# Altium schematic symbol library kmilo17pet-LT_PMIC_LT.SchLib: 2252 symbols (part 44 of 124)
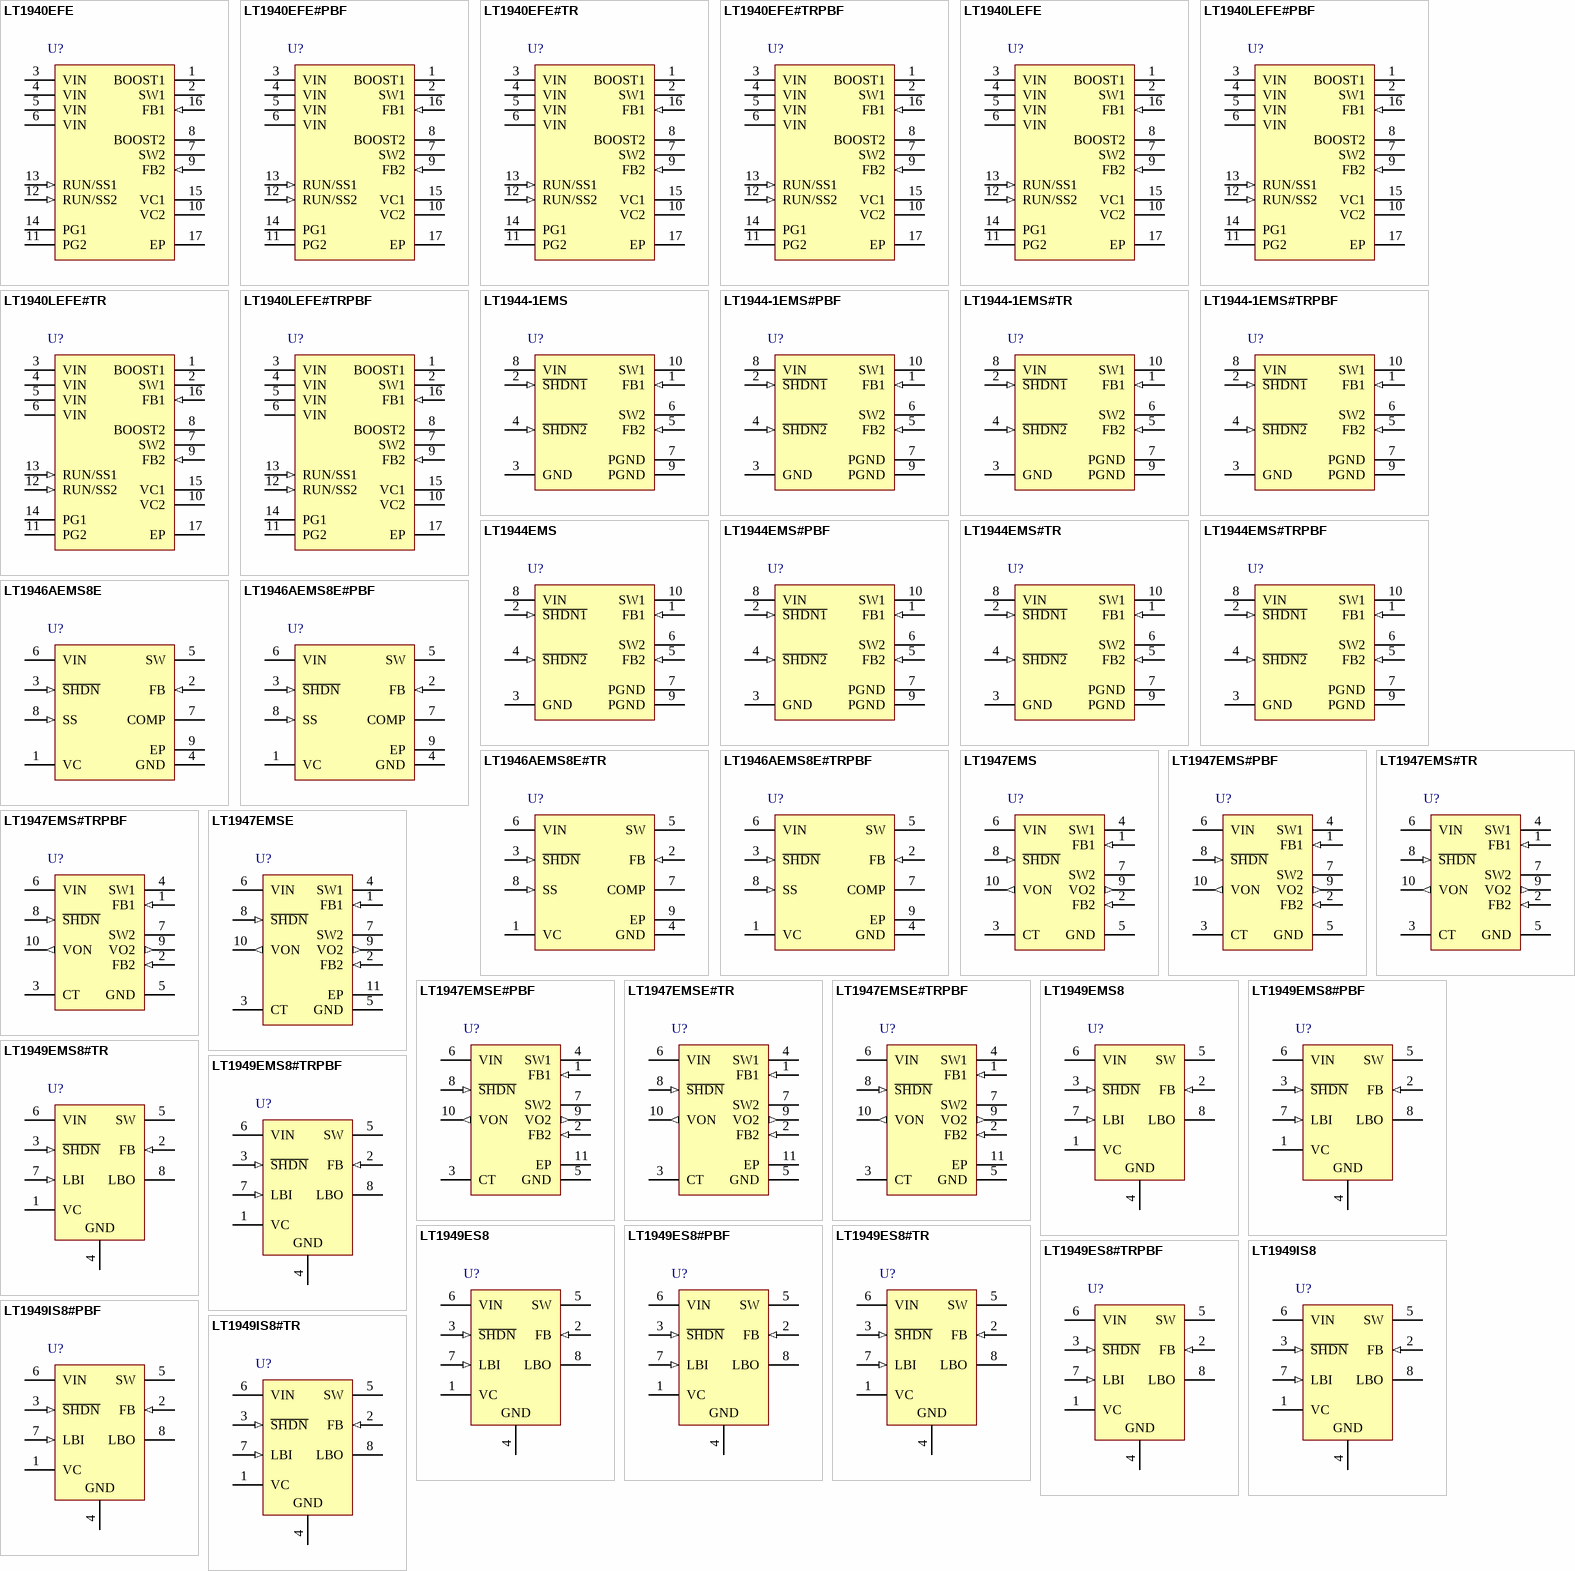
[diagram p114: symbols LT1940EFE to LT1949IS8#TR]

## LT1947EMS#TR
designator U?
Adjustable Output TFT-LCD Triple Switching Regulator MAX, 10-pin SOP (MS-10), -40 to 85 degC, Tape and Reel; Manufacturer: Linear Technology; PartNumber: LT1947EMS#TR; Number of Outputs: 3; PackageReference: MS-10; PackageDescription: 10-Pin Plastic MSOP, Body 3 x 3 mm, Pitch 0.5 mm; Supplier 1: Digi-Key; Supplier Part Number 1: LT1947EMSTR-ND; RoHS: FALSE
footprint LT-MS-10_N (SOP, 10-Leads, Body 3.1x3.1mm, Pitch 0.5mm, IPC Medium Density)
footprint LT-MS-10_L (SOP, 10-Leads, Body 3.1x3.1mm, Pitch 0.5mm, IPC High Density)
footprint LT-MS-10_M (SOP, 10-Leads, Body 3.1x3.1mm, Pitch 0.5mm, IPC Low Density)
pins: 1 FB1 (in) "Feedback Pin for First Switcher. Connect resistor divider tap here. Set AVDD according to: AVDD = 1.26V(1 + R1/R2).", 2 FB2 (in) "Feedback Pin for Second Switcher. Connect resistor divider 2 here and set VON using: VON = 1.26V (1 + R3/R4) - 160mV", 3 CT "Timing Capacitor Pin. Connect a 10nF capacitor from CT to ground to program a 2.3ms delay from FB1 reaching 1.26V to VON turning on.", 4 SW1 (power) "AVDD Switch Node. Connect L1 and D1 here (see Figure 1). Minimize trace area at this pin to keep EMI down.", 5 GND (power) "Ground. Connect directly to local ground plane.", 6 VIN (power) "Input Supply Pin. Must be bypassed with a ceramic capacitor close to the pin.", 7 SW2 (power) "VO2 Switch Node. Connect L2 and D2 here. Minimize trace area at this pin to keep EMI down.", 8 ~{SHDN} (in) "Pull this pin low for shutdown mode. For normal operation, tie to a voltage between 2.4V and 8V.", 9 VO2 (out) "SW2 Output. This node is also internally connected to the emitter of Q3 (see Block Diagram), the high side switch between VO2 and VON.", 10 VON (out) "This is the delayed output for second Switcher. VON reaches its programmed voltage after the internal timer times out."

## LT1947EMS#TRPBF
designator U?
Adjustable Output TFT-LCD Triple Switching Regulator MAX, 10-pin SOP (MS-10), -40 to 85 degC, Pb-Free, Tape and Reel; Manufacturer: Linear Technology; PartNumber: LT1947EMS#TRPBF; Number of Outputs: 3; PackageReference: MS-10; PackageDescription: 10-Pin Plastic MSOP, Body 3 x 3 mm, Pitch 0.5 mm; Supplier 1: Digi-Key; Supplier Part Number 1: LT1947EMS#TRPBF-ND; RoHS: TRUE
footprint LT-MS-10_N (SOP, 10-Leads, Body 3.1x3.1mm, Pitch 0.5mm, IPC Medium Density)
footprint LT-MS-10_L (SOP, 10-Leads, Body 3.1x3.1mm, Pitch 0.5mm, IPC High Density)
footprint LT-MS-10_M (SOP, 10-Leads, Body 3.1x3.1mm, Pitch 0.5mm, IPC Low Density)
pins: 1 FB1 (in) "Feedback Pin for First Switcher. Connect resistor divider tap here. Set AVDD according to: AVDD = 1.26V(1 + R1/R2).", 2 FB2 (in) "Feedback Pin for Second Switcher. Connect resistor divider 2 here and set VON using: VON = 1.26V (1 + R3/R4) - 160mV", 3 CT "Timing Capacitor Pin. Connect a 10nF capacitor from CT to ground to program a 2.3ms delay from FB1 reaching 1.26V to VON turning on.", 4 SW1 (power) "AVDD Switch Node. Connect L1 and D1 here (see Figure 1). Minimize trace area at this pin to keep EMI down.", 5 GND (power) "Ground. Connect directly to local ground plane.", 6 VIN (power) "Input Supply Pin. Must be bypassed with a ceramic capacitor close to the pin.", 7 SW2 (power) "VO2 Switch Node. Connect L2 and D2 here. Minimize trace area at this pin to keep EMI down.", 8 ~{SHDN} (in) "Pull this pin low for shutdown mode. For normal operation, tie to a voltage between 2.4V and 8V.", 9 VO2 (out) "SW2 Output. This node is also internally connected to the emitter of Q3 (see Block Diagram), the high side switch between VO2 and VON.", 10 VON (out) "This is the delayed output for second Switcher. VON reaches its programmed voltage after the internal timer times out."

## LT1947EMSE
designator U?
Adjustable Output TFT-LCD Triple Switching Regulator MAX,10-pin SOP (MSE-10-EDP), -40 to 85 degC; Manufacturer: Linear Technology; PartNumber: LT1947EMSE; Number of Outputs: 3; PackageReference: MSE-10; PackageDescription: 10-Pin Plastic MSOP, Exposed Die Pad, Body 3 x 3 mm, Pitch 0.5 mm; RoHS: FALSE
footprint LT-MSE-10-EDP-2060x1830TP_N (SOP, 10-Leads, Body 3.1x3.1mm, Pitch 0.5mm, Thermal Pad 2.17x1.94mm, IPC Medium Density)
footprint LT-MSE-10-EDP-2060x1830TP_L (SOP, 10-Leads, Body 3.1x3.1mm, Pitch 0.5mm, Thermal Pad 2.17x1.94mm, IPC High Density)
footprint LT-MSE-10-EDP-2060x1830TP_M (SOP, 10-Leads, Body 3.1x3.1mm, Pitch 0.5mm, Thermal Pad 2.17x1.94mm, IPC Low Density)
pins: 1 FB1 (in) "Feedback Pin for First Switcher. Connect resistor divider tap here. Set AVDD according to: AVDD = 1.26V(1 + R1/R2).", 2 FB2 (in) "Feedback Pin for Second Switcher. Connect resistor divider 2 here and set VON using: VON = 1.26V (1 + R3/R4) - 160mV", 3 CT "Timing Capacitor Pin. Connect a 10nF capacitor from CT to ground to program a 2.3ms delay from FB1 reaching 1.26V to VON turning on.", 4 SW1 (power) "AVDD Switch Node. Connect L1 and D1 here (see Figure 1). Minimize trace area at this pin to keep EMI down.", 5 GND (power) "Ground. Connect directly to local ground plane.", 6 VIN (power) "Input Supply Pin. Must be bypassed with a ceramic capacitor close to the pin.", 7 SW2 (power) "VO2 Switch Node. Connect L2 and D2 here. Minimize trace area at this pin to keep EMI down.", 8 ~{SHDN} (in) "Pull this pin low for shutdown mode. For normal operation, tie to a voltage between 2.4V and 8V.", 9 VO2 (out) "SW2 Output. This node is also internally connected to the emitter of Q3 (see Block Diagram), the high side switch between VO2 and VON.", 10 VON (out) "This is the delayed output for second Switcher. VON reaches its programmed voltage after the internal timer times out.", 11 EP (power) "Ground (MSE package only). The exposed pad must be soldered to the PCB and electrically connected to ground."

## LT1947EMSE#PBF
designator U?
Adjustable Output TFT-LCD Triple Switching Regulator MAX,10-pin SOP (MSE-10-EDP), -40 to 85 degC, Pb-Free; Manufacturer: Linear Technology; PartNumber: LT1947EMSE#PBF; Number of Outputs: 3; PackageReference: MSE-10; PackageDescription: 10-Pin Plastic MSOP, Exposed Die Pad, Body 3 x 3 mm, Pitch 0.5 mm; Supplier 1: Digi-Key; Supplier Part Number 1: LT1947EMSE#PBF-ND; RoHS: TRUE
footprint LT-MSE-10-EDP-2060x1830TP_N (SOP, 10-Leads, Body 3.1x3.1mm, Pitch 0.5mm, Thermal Pad 2.17x1.94mm, IPC Medium Density)
footprint LT-MSE-10-EDP-2060x1830TP_L (SOP, 10-Leads, Body 3.1x3.1mm, Pitch 0.5mm, Thermal Pad 2.17x1.94mm, IPC High Density)
footprint LT-MSE-10-EDP-2060x1830TP_M (SOP, 10-Leads, Body 3.1x3.1mm, Pitch 0.5mm, Thermal Pad 2.17x1.94mm, IPC Low Density)
pins: 1 FB1 (in) "Feedback Pin for First Switcher. Connect resistor divider tap here. Set AVDD according to: AVDD = 1.26V(1 + R1/R2).", 2 FB2 (in) "Feedback Pin for Second Switcher. Connect resistor divider 2 here and set VON using: VON = 1.26V (1 + R3/R4) - 160mV", 3 CT "Timing Capacitor Pin. Connect a 10nF capacitor from CT to ground to program a 2.3ms delay from FB1 reaching 1.26V to VON turning on.", 4 SW1 (power) "AVDD Switch Node. Connect L1 and D1 here (see Figure 1). Minimize trace area at this pin to keep EMI down.", 5 GND (power) "Ground. Connect directly to local ground plane.", 6 VIN (power) "Input Supply Pin. Must be bypassed with a ceramic capacitor close to the pin.", 7 SW2 (power) "VO2 Switch Node. Connect L2 and D2 here. Minimize trace area at this pin to keep EMI down.", 8 ~{SHDN} (in) "Pull this pin low for shutdown mode. For normal operation, tie to a voltage between 2.4V and 8V.", 9 VO2 (out) "SW2 Output. This node is also internally connected to the emitter of Q3 (see Block Diagram), the high side switch between VO2 and VON.", 10 VON (out) "This is the delayed output for second Switcher. VON reaches its programmed voltage after the internal timer times out.", 11 EP (power) "Ground (MSE package only). The exposed pad must be soldered to the PCB and electrically connected to ground."

## LT1947EMSE#TR
designator U?
Adjustable Output TFT-LCD Triple Switching Regulator MAX,10-pin SOP (MSE-10-EDP), -40 to 85 degC, Tape and Reel; Manufacturer: Linear Technology; PartNumber: LT1947EMSE#TR; Number of Outputs: 3; PackageReference: MSE-10; PackageDescription: 10-Pin Plastic MSOP, Exposed Die Pad, Body 3 x 3 mm, Pitch 0.5 mm; RoHS: FALSE
footprint LT-MSE-10-EDP-2060x1830TP_N (SOP, 10-Leads, Body 3.1x3.1mm, Pitch 0.5mm, Thermal Pad 2.17x1.94mm, IPC Medium Density)
footprint LT-MSE-10-EDP-2060x1830TP_L (SOP, 10-Leads, Body 3.1x3.1mm, Pitch 0.5mm, Thermal Pad 2.17x1.94mm, IPC High Density)
footprint LT-MSE-10-EDP-2060x1830TP_M (SOP, 10-Leads, Body 3.1x3.1mm, Pitch 0.5mm, Thermal Pad 2.17x1.94mm, IPC Low Density)
pins: 1 FB1 (in) "Feedback Pin for First Switcher. Connect resistor divider tap here. Set AVDD according to: AVDD = 1.26V(1 + R1/R2).", 2 FB2 (in) "Feedback Pin for Second Switcher. Connect resistor divider 2 here and set VON using: VON = 1.26V (1 + R3/R4) - 160mV", 3 CT "Timing Capacitor Pin. Connect a 10nF capacitor from CT to ground to program a 2.3ms delay from FB1 reaching 1.26V to VON turning on.", 4 SW1 (power) "AVDD Switch Node. Connect L1 and D1 here (see Figure 1). Minimize trace area at this pin to keep EMI down.", 5 GND (power) "Ground. Connect directly to local ground plane.", 6 VIN (power) "Input Supply Pin. Must be bypassed with a ceramic capacitor close to the pin.", 7 SW2 (power) "VO2 Switch Node. Connect L2 and D2 here. Minimize trace area at this pin to keep EMI down.", 8 ~{SHDN} (in) "Pull this pin low for shutdown mode. For normal operation, tie to a voltage between 2.4V and 8V.", 9 VO2 (out) "SW2 Output. This node is also internally connected to the emitter of Q3 (see Block Diagram), the high side switch between VO2 and VON.", 10 VON (out) "This is the delayed output for second Switcher. VON reaches its programmed voltage after the internal timer times out.", 11 EP (power) "Ground (MSE package only). The exposed pad must be soldered to the PCB and electrically connected to ground."

## LT1947EMSE#TRPBF
designator U?
Adjustable Output TFT-LCD Triple Switching Regulator MAX,10-pin SOP (MSE-10-EDP), -40 to 85 degC, Pb-Free, Tape and Reel; Manufacturer: Linear Technology; PartNumber: LT1947EMSE#TRPBF; Number of Outputs: 3; PackageReference: MSE-10; PackageDescription: 10-Pin Plastic MSOP, Exposed Die Pad, Body 3 x 3 mm, Pitch 0.5 mm; Supplier 1: Digi-Key; Supplier Part Number 1: LT1947EMSE#TRPBF-ND; RoHS: TRUE
footprint LT-MSE-10-EDP-2060x1830TP_N (SOP, 10-Leads, Body 3.1x3.1mm, Pitch 0.5mm, Thermal Pad 2.17x1.94mm, IPC Medium Density)
footprint LT-MSE-10-EDP-2060x1830TP_L (SOP, 10-Leads, Body 3.1x3.1mm, Pitch 0.5mm, Thermal Pad 2.17x1.94mm, IPC High Density)
footprint LT-MSE-10-EDP-2060x1830TP_M (SOP, 10-Leads, Body 3.1x3.1mm, Pitch 0.5mm, Thermal Pad 2.17x1.94mm, IPC Low Density)
pins: 1 FB1 (in) "Feedback Pin for First Switcher. Connect resistor divider tap here. Set AVDD according to: AVDD = 1.26V(1 + R1/R2).", 2 FB2 (in) "Feedback Pin for Second Switcher. Connect resistor divider 2 here and set VON using: VON = 1.26V (1 + R3/R4) - 160mV", 3 CT "Timing Capacitor Pin. Connect a 10nF capacitor from CT to ground to program a 2.3ms delay from FB1 reaching 1.26V to VON turning on.", 4 SW1 (power) "AVDD Switch Node. Connect L1 and D1 here (see Figure 1). Minimize trace area at this pin to keep EMI down.", 5 GND (power) "Ground. Connect directly to local ground plane.", 6 VIN (power) "Input Supply Pin. Must be bypassed with a ceramic capacitor close to the pin.", 7 SW2 (power) "VO2 Switch Node. Connect L2 and D2 here. Minimize trace area at this pin to keep EMI down.", 8 ~{SHDN} (in) "Pull this pin low for shutdown mode. For normal operation, tie to a voltage between 2.4V and 8V.", 9 VO2 (out) "SW2 Output. This node is also internally connected to the emitter of Q3 (see Block Diagram), the high side switch between VO2 and VON.", 10 VON (out) "This is the delayed output for second Switcher. VON reaches its programmed voltage after the internal timer times out.", 11 EP (power) "Ground (MSE package only). The exposed pad must be soldered to the PCB and electrically connected to ground."

## LT1949EMS8
designator U?
600 kHz, 1 A Switch PWM DC/DC Converter, 8-pin SOP (MS8-8), -40 to 85 degC; Manufacturer: Linear Technology; PartNumber: LT1949EMS8; Number of Outputs: 1; PackageReference: MS8-8; PackageDescription: 8-Pin Plastic MSOP, Body 3 x 3 mm, Pitch 0.65 mm; Supplier 1: Digi-Key; Supplier Part Number 1: LT1949EMS8-ND; RoHS: FALSE
footprint LT-MS8-8_N (SOP, 8-Leads, Body 3.1x3.1mm, Pitch 0.65mm, IPC Medium Density)
footprint LT-MS8-8_L (SOP, 8-Leads, Body 3.1x3.1mm, Pitch 0.65mm, IPC High Density)
footprint LT-MS8-8_M (SOP, 8-Leads, Body 3.1x3.1mm, Pitch 0.65mm, IPC Low Density)
pins: 1 VC "Compensation Pin for Error Amplifier.", 2 FB (in) "Feedback Pin.", 3 ~{SHDN} (in) "Shutdown.", 4 GND (power) "Ground. Connect directly to local ground plane.", 5 SW (power) "Switch Pin. Connect inductor/diode here. Minimize trace area at this pin to keep EMI down.", 6 VIN (power) "Supply Pin.", 7 LBI (in) "Low-Battery Detector Input. 200mV reference. Voltage on LBI must stay between ground and 700mV.", 8 LBO (oc) "Low-Battery Detector Output. Open collector, can sink 10uA. A 1Mohm pull-up is recommended."

## LT1949EMS8#PBF
designator U?
600 kHz, 1 A Switch PWM DC/DC Converter, 8-pin SOP (MS8-8), -40 to 85 degC, Pb-Free; Manufacturer: Linear Technology; PartNumber: LT1949EMS8#PBF; Number of Outputs: 1; PackageReference: MS8-8; PackageDescription: 8-Pin Plastic MSOP, Body 3 x 3 mm, Pitch 0.65 mm; Supplier 1: Digi-Key; Supplier Part Number 1: LT1949EMS8#PBF-ND; RoHS: TRUE
footprint LT-MS8-8_N (SOP, 8-Leads, Body 3.1x3.1mm, Pitch 0.65mm, IPC Medium Density)
footprint LT-MS8-8_L (SOP, 8-Leads, Body 3.1x3.1mm, Pitch 0.65mm, IPC High Density)
footprint LT-MS8-8_M (SOP, 8-Leads, Body 3.1x3.1mm, Pitch 0.65mm, IPC Low Density)
pins: 1 VC "Compensation Pin for Error Amplifier.", 2 FB (in) "Feedback Pin.", 3 ~{SHDN} (in) "Shutdown.", 4 GND (power) "Ground. Connect directly to local ground plane.", 5 SW (power) "Switch Pin. Connect inductor/diode here. Minimize trace area at this pin to keep EMI down.", 6 VIN (power) "Supply Pin.", 7 LBI (in) "Low-Battery Detector Input. 200mV reference. Voltage on LBI must stay between ground and 700mV.", 8 LBO (oc) "Low-Battery Detector Output. Open collector, can sink 10uA. A 1Mohm pull-up is recommended."

## LT1949EMS8#TR
designator U?
600 kHz, 1 A Switch PWM DC/DC Converter, 8-pin SOP (MS8-8), -40 to 85 degC, Tape and Reel; Manufacturer: Linear Technology; PartNumber: LT1949EMS8#TR; Number of Outputs: 1; PackageReference: MS8-8; PackageDescription: 8-Pin Plastic MSOP, Body 3 x 3 mm, Pitch 0.65 mm; Supplier 1: Digi-Key; Supplier Part Number 1: LT1949EMS8#TR-ND; RoHS: FALSE
footprint LT-MS8-8_N (SOP, 8-Leads, Body 3.1x3.1mm, Pitch 0.65mm, IPC Medium Density)
footprint LT-MS8-8_L (SOP, 8-Leads, Body 3.1x3.1mm, Pitch 0.65mm, IPC High Density)
footprint LT-MS8-8_M (SOP, 8-Leads, Body 3.1x3.1mm, Pitch 0.65mm, IPC Low Density)
pins: 1 VC "Compensation Pin for Error Amplifier.", 2 FB (in) "Feedback Pin.", 3 ~{SHDN} (in) "Shutdown.", 4 GND (power) "Ground. Connect directly to local ground plane.", 5 SW (power) "Switch Pin. Connect inductor/diode here. Minimize trace area at this pin to keep EMI down.", 6 VIN (power) "Supply Pin.", 7 LBI (in) "Low-Battery Detector Input. 200mV reference. Voltage on LBI must stay between ground and 700mV.", 8 LBO (oc) "Low-Battery Detector Output. Open collector, can sink 10uA. A 1Mohm pull-up is recommended."

## LT1949EMS8#TRPBF
designator U?
600 kHz, 1 A Switch PWM DC/DC Converter, 8-pin SOP (MS8-8), -40 to 85 degC, Pb-Free, Tape and Reel; Manufacturer: Linear Technology; PartNumber: LT1949EMS8#TRPBF; Number of Outputs: 1; PackageReference: MS8-8; PackageDescription: 8-Pin Plastic MSOP, Body 3 x 3 mm, Pitch 0.65 mm; Supplier 1: Digi-Key; Supplier Part Number 1: LT1949EMS8#TRPBF-ND; RoHS: TRUE
footprint LT-MS8-8_N (SOP, 8-Leads, Body 3.1x3.1mm, Pitch 0.65mm, IPC Medium Density)
footprint LT-MS8-8_L (SOP, 8-Leads, Body 3.1x3.1mm, Pitch 0.65mm, IPC High Density)
footprint LT-MS8-8_M (SOP, 8-Leads, Body 3.1x3.1mm, Pitch 0.65mm, IPC Low Density)
pins: 1 VC "Compensation Pin for Error Amplifier.", 2 FB (in) "Feedback Pin.", 3 ~{SHDN} (in) "Shutdown.", 4 GND (power) "Ground. Connect directly to local ground plane.", 5 SW (power) "Switch Pin. Connect inductor/diode here. Minimize trace area at this pin to keep EMI down.", 6 VIN (power) "Supply Pin.", 7 LBI (in) "Low-Battery Detector Input. 200mV reference. Voltage on LBI must stay between ground and 700mV.", 8 LBO (oc) "Low-Battery Detector Output. Open collector, can sink 10uA. A 1Mohm pull-up is recommended."

## LT1949ES8
designator U?
600 kHz, 1 A Switch PWM DC/DC Converter, 8-pin SOIC (S8-8), -40 to 85 degC; Manufacturer: Linear Technology; PartNumber: LT1949ES8; Number of Outputs: 1; PackageReference: S8-8; PackageDescription: 8-Pin Plastic Small Outline (Narrow .150 Inch), Body 4.9 x 3.9 mm, Pitch 1.27 mm; Supplier 1: Digi-Key; Supplier Part Number 1: LT1949ES8-ND; RoHS: FALSE
footprint LT-S8-8_N (SOIC, 8-Leads, Body 5x4mm, Pitch 1.27mm, IPC Medium Density)
footprint LT-S8-8_L (SOIC, 8-Leads, Body 5x4mm, Pitch 1.27mm, IPC High Density)
footprint LT-S8-8_M (SOIC, 8-Leads, Body 5x4mm, Pitch 1.27mm, IPC Low Density)
pins: 1 VC "Compensation Pin for Error Amplifier.", 2 FB (in) "Feedback Pin.", 3 ~{SHDN} (in) "Shutdown.", 4 GND (power) "Ground. Connect directly to local ground plane.", 5 SW (power) "Switch Pin. Connect inductor/diode here. Minimize trace area at this pin to keep EMI down.", 6 VIN (power) "Supply Pin.", 7 LBI (in) "Low-Battery Detector Input. 200mV reference. Voltage on LBI must stay between ground and 700mV.", 8 LBO (oc) "Low-Battery Detector Output. Open collector, can sink 10uA. A 1Mohm pull-up is recommended."

## LT1949ES8#PBF
designator U?
600 kHz, 1 A Switch PWM DC/DC Converter, 8-pin SOIC (S8-8), -40 to 85 degC, Pb-Free; Manufacturer: Linear Technology; PartNumber: LT1949ES8#PBF; Number of Outputs: 1; PackageReference: S8-8; PackageDescription: 8-Pin Plastic Small Outline (Narrow .150 Inch), Body 4.9 x 3.9 mm, Pitch 1.27 mm; Supplier 1: Digi-Key; Supplier Part Number 1: LT1949ES8#PBF-ND; RoHS: TRUE
footprint LT-S8-8_N (SOIC, 8-Leads, Body 5x4mm, Pitch 1.27mm, IPC Medium Density)
footprint LT-S8-8_L (SOIC, 8-Leads, Body 5x4mm, Pitch 1.27mm, IPC High Density)
footprint LT-S8-8_M (SOIC, 8-Leads, Body 5x4mm, Pitch 1.27mm, IPC Low Density)
pins: 1 VC "Compensation Pin for Error Amplifier.", 2 FB (in) "Feedback Pin.", 3 ~{SHDN} (in) "Shutdown.", 4 GND (power) "Ground. Connect directly to local ground plane.", 5 SW (power) "Switch Pin. Connect inductor/diode here. Minimize trace area at this pin to keep EMI down.", 6 VIN (power) "Supply Pin.", 7 LBI (in) "Low-Battery Detector Input. 200mV reference. Voltage on LBI must stay between ground and 700mV.", 8 LBO (oc) "Low-Battery Detector Output. Open collector, can sink 10uA. A 1Mohm pull-up is recommended."

## LT1949ES8#TR
designator U?
600 kHz, 1 A Switch PWM DC/DC Converter, 8-pin SOIC (S8-8), -40 to 85 degC, Tape and Reel; Manufacturer: Linear Technology; PartNumber: LT1949ES8#TR; Number of Outputs: 1; PackageReference: S8-8; PackageDescription: 8-Pin Plastic Small Outline (Narrow .150 Inch), Body 4.9 x 3.9 mm, Pitch 1.27 mm; Supplier 1: Digi-Key; Supplier Part Number 1: LT1949ES8#TR-ND; RoHS: FALSE
footprint LT-S8-8_N (SOIC, 8-Leads, Body 5x4mm, Pitch 1.27mm, IPC Medium Density)
footprint LT-S8-8_L (SOIC, 8-Leads, Body 5x4mm, Pitch 1.27mm, IPC High Density)
footprint LT-S8-8_M (SOIC, 8-Leads, Body 5x4mm, Pitch 1.27mm, IPC Low Density)
pins: 1 VC "Compensation Pin for Error Amplifier.", 2 FB (in) "Feedback Pin.", 3 ~{SHDN} (in) "Shutdown.", 4 GND (power) "Ground. Connect directly to local ground plane.", 5 SW (power) "Switch Pin. Connect inductor/diode here. Minimize trace area at this pin to keep EMI down.", 6 VIN (power) "Supply Pin.", 7 LBI (in) "Low-Battery Detector Input. 200mV reference. Voltage on LBI must stay between ground and 700mV.", 8 LBO (oc) "Low-Battery Detector Output. Open collector, can sink 10uA. A 1Mohm pull-up is recommended."

## LT1949ES8#TRPBF
designator U?
600 kHz, 1 A Switch PWM DC/DC Converter, 8-pin SOIC (S8-8), -40 to 85 degC, Pb-Free, Tape and Reel; Manufacturer: Linear Technology; PartNumber: LT1949ES8#TRPBF; Number of Outputs: 1; PackageReference: S8-8; PackageDescription: 8-Pin Plastic Small Outline (Narrow .150 Inch), Body 4.9 x 3.9 mm, Pitch 1.27 mm; Supplier 1: Digi-Key; Supplier Part Number 1: LT1949ES8#TRPBF-ND; RoHS: TRUE
footprint LT-S8-8_N (SOIC, 8-Leads, Body 5x4mm, Pitch 1.27mm, IPC Medium Density)
footprint LT-S8-8_L (SOIC, 8-Leads, Body 5x4mm, Pitch 1.27mm, IPC High Density)
footprint LT-S8-8_M (SOIC, 8-Leads, Body 5x4mm, Pitch 1.27mm, IPC Low Density)
pins: 1 VC "Compensation Pin for Error Amplifier.", 2 FB (in) "Feedback Pin.", 3 ~{SHDN} (in) "Shutdown.", 4 GND (power) "Ground. Connect directly to local ground plane.", 5 SW (power) "Switch Pin. Connect inductor/diode here. Minimize trace area at this pin to keep EMI down.", 6 VIN (power) "Supply Pin.", 7 LBI (in) "Low-Battery Detector Input. 200mV reference. Voltage on LBI must stay between ground and 700mV.", 8 LBO (oc) "Low-Battery Detector Output. Open collector, can sink 10uA. A 1Mohm pull-up is recommended."

## LT1949IS8
designator U?
600 kHz, 1 A Switch PWM DC/DC Converter, 8-pin SOIC (S8-8), -40 to 85 degC; Manufacturer: Linear Technology; PartNumber: LT1949IS8; Number of Outputs: 1; PackageReference: S8-8; PackageDescription: 8-Pin Plastic Small Outline (Narrow .150 Inch), Body 4.9 x 3.9 mm, Pitch 1.27 mm; Supplier 1: Digi-Key; Supplier Part Number 1: LT1949IS8-ND; RoHS: FALSE
footprint LT-S8-8_N (SOIC, 8-Leads, Body 5x4mm, Pitch 1.27mm, IPC Medium Density)
footprint LT-S8-8_L (SOIC, 8-Leads, Body 5x4mm, Pitch 1.27mm, IPC High Density)
footprint LT-S8-8_M (SOIC, 8-Leads, Body 5x4mm, Pitch 1.27mm, IPC Low Density)
pins: 1 VC "Compensation Pin for Error Amplifier.", 2 FB (in) "Feedback Pin.", 3 ~{SHDN} (in) "Shutdown.", 4 GND (power) "Ground. Connect directly to local ground plane.", 5 SW (power) "Switch Pin. Connect inductor/diode here. Minimize trace area at this pin to keep EMI down.", 6 VIN (power) "Supply Pin.", 7 LBI (in) "Low-Battery Detector Input. 200mV reference. Voltage on LBI must stay between ground and 700mV.", 8 LBO (oc) "Low-Battery Detector Output. Open collector, can sink 10uA. A 1Mohm pull-up is recommended."

## LT1949IS8#PBF
designator U?
600 kHz, 1 A Switch PWM DC/DC Converter, 8-pin SOIC (S8-8), -40 to 85 degC, Pb-Free; Manufacturer: Linear Technology; PartNumber: LT1949IS8#PBF; Number of Outputs: 1; PackageReference: S8-8; PackageDescription: 8-Pin Plastic Small Outline (Narrow .150 Inch), Body 4.9 x 3.9 mm, Pitch 1.27 mm; Supplier 1: Digi-Key; Supplier Part Number 1: LT1949IS8#PBF-ND; RoHS: TRUE
footprint LT-S8-8_N (SOIC, 8-Leads, Body 5x4mm, Pitch 1.27mm, IPC Medium Density)
footprint LT-S8-8_L (SOIC, 8-Leads, Body 5x4mm, Pitch 1.27mm, IPC High Density)
footprint LT-S8-8_M (SOIC, 8-Leads, Body 5x4mm, Pitch 1.27mm, IPC Low Density)
pins: 1 VC "Compensation Pin for Error Amplifier.", 2 FB (in) "Feedback Pin.", 3 ~{SHDN} (in) "Shutdown.", 4 GND (power) "Ground. Connect directly to local ground plane.", 5 SW (power) "Switch Pin. Connect inductor/diode here. Minimize trace area at this pin to keep EMI down.", 6 VIN (power) "Supply Pin.", 7 LBI (in) "Low-Battery Detector Input. 200mV reference. Voltage on LBI must stay between ground and 700mV.", 8 LBO (oc) "Low-Battery Detector Output. Open collector, can sink 10uA. A 1Mohm pull-up is recommended."

## LT1949IS8#TR
designator U?
600 kHz, 1 A Switch PWM DC/DC Converter, 8-pin SOIC (S8-8), -40 to 85 degC, Tape and Reel; Manufacturer: Linear Technology; PartNumber: LT1949IS8#TR; Number of Outputs: 1; PackageReference: S8-8; PackageDescription: 8-Pin Plastic Small Outline (Narrow .150 Inch), Body 4.9 x 3.9 mm, Pitch 1.27 mm; Supplier 1: Digi-Key; Supplier Part Number 1: LT1949IS8#TR-ND; RoHS: FALSE
footprint LT-S8-8_N (SOIC, 8-Leads, Body 5x4mm, Pitch 1.27mm, IPC Medium Density)
footprint LT-S8-8_L (SOIC, 8-Leads, Body 5x4mm, Pitch 1.27mm, IPC High Density)
footprint LT-S8-8_M (SOIC, 8-Leads, Body 5x4mm, Pitch 1.27mm, IPC Low Density)
pins: 1 VC "Compensation Pin for Error Amplifier.", 2 FB (in) "Feedback Pin.", 3 ~{SHDN} (in) "Shutdown.", 4 GND (power) "Ground. Connect directly to local ground plane.", 5 SW (power) "Switch Pin. Connect inductor/diode here. Minimize trace area at this pin to keep EMI down.", 6 VIN (power) "Supply Pin.", 7 LBI (in) "Low-Battery Detector Input. 200mV reference. Voltage on LBI must stay between ground and 700mV.", 8 LBO (oc) "Low-Battery Detector Output. Open collector, can sink 10uA. A 1Mohm pull-up is recommended."

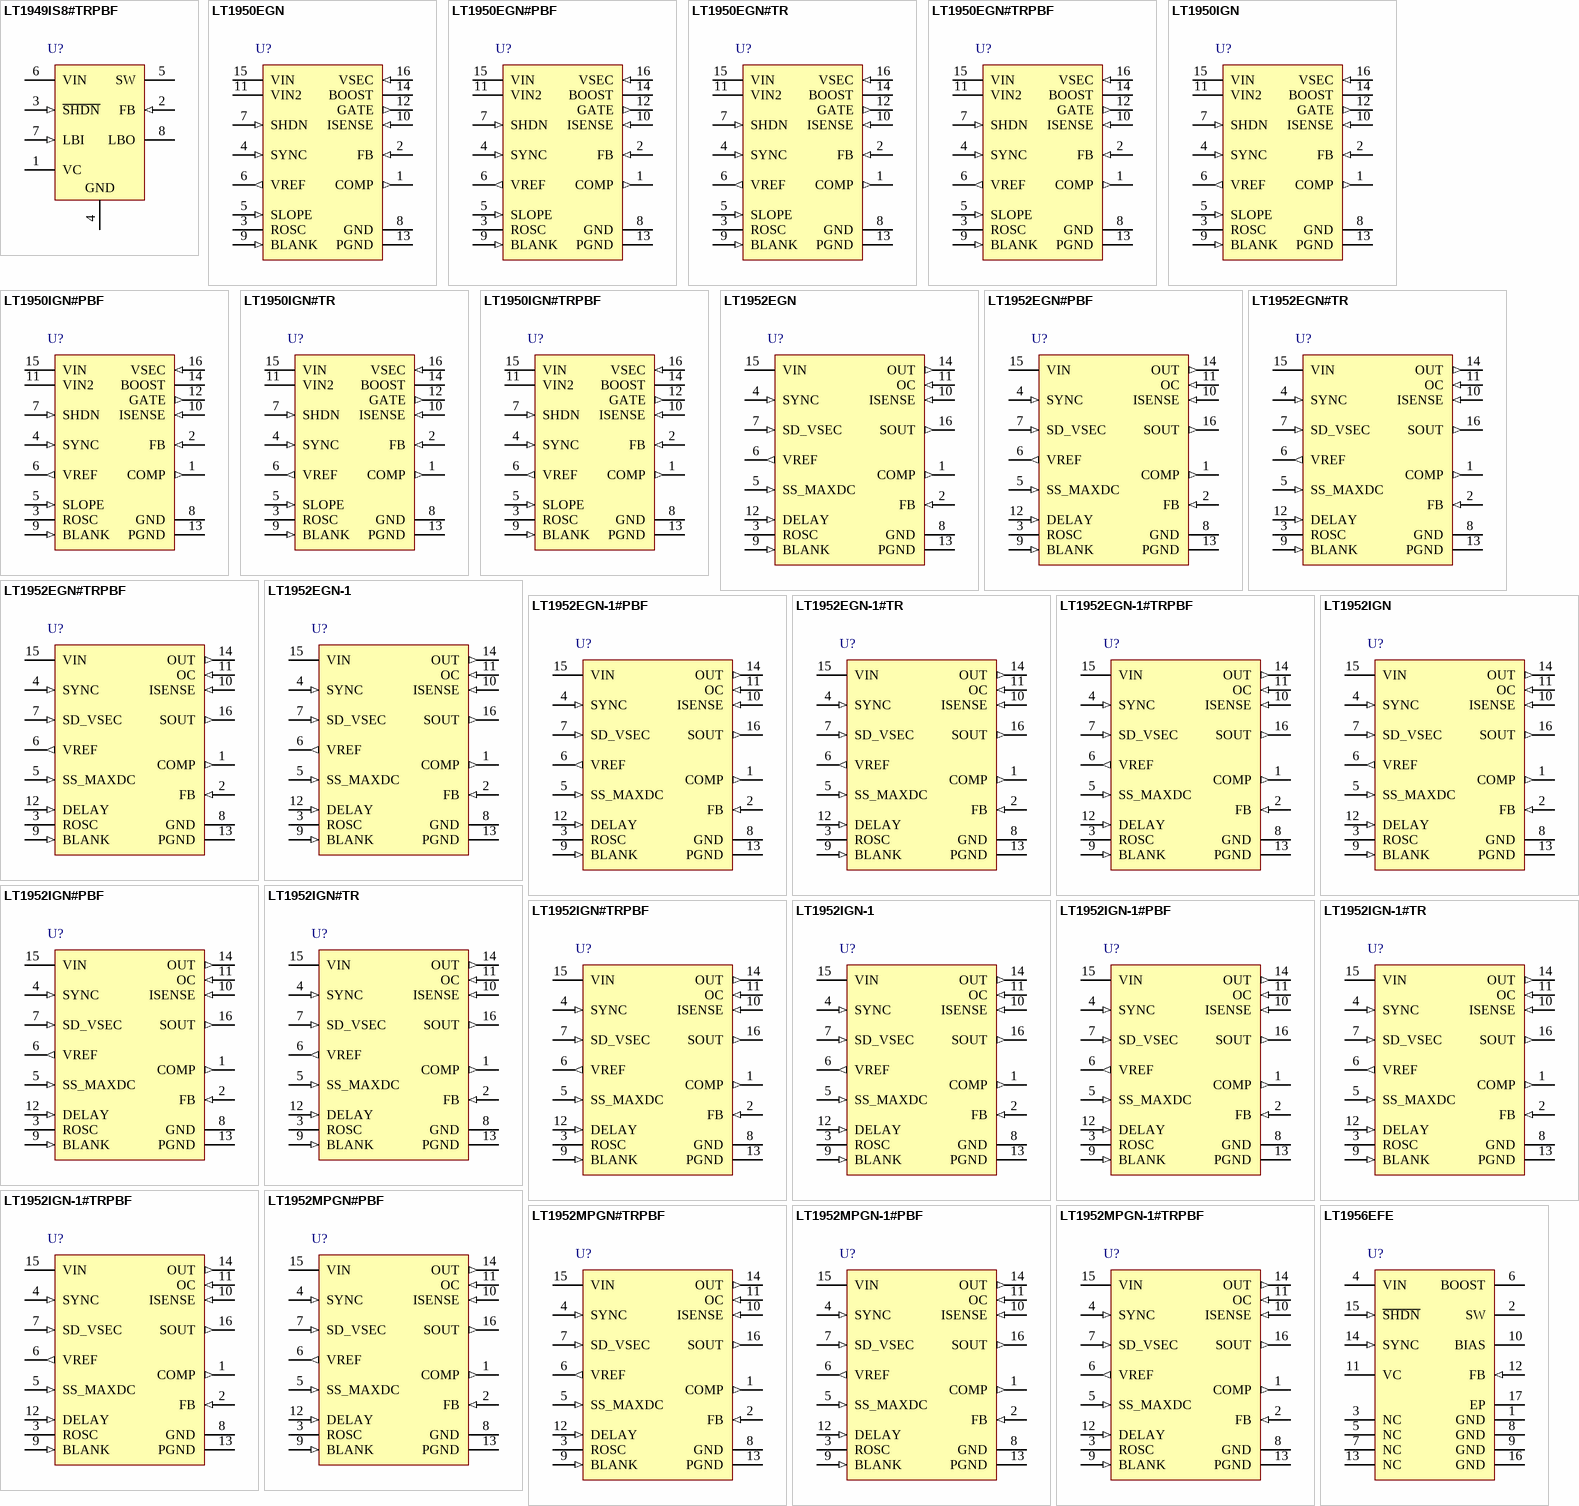
[diagram p28: symbols LT1949IS8#TRPBF to LT1956EFE]

## LT1949IS8#TRPBF
designator U?
600 kHz, 1 A Switch PWM DC/DC Converter, 8-pin SOIC (S8-8), -40 to 85 degC, Pb-Free, Tape and Reel; Manufacturer: Linear Technology; PartNumber: LT1949IS8#TRPBF; Number of Outputs: 1; PackageReference: S8-8; PackageDescription: 8-Pin Plastic Small Outline (Narrow .150 Inch), Body 4.9 x 3.9 mm, Pitch 1.27 mm; Supplier 1: Digi-Key; Supplier Part Number 1: LT1949IS8#TRPBF-ND; RoHS: TRUE
footprint LT-S8-8_N (SOIC, 8-Leads, Body 5x4mm, Pitch 1.27mm, IPC Medium Density)
footprint LT-S8-8_L (SOIC, 8-Leads, Body 5x4mm, Pitch 1.27mm, IPC High Density)
footprint LT-S8-8_M (SOIC, 8-Leads, Body 5x4mm, Pitch 1.27mm, IPC Low Density)
pins: 1 VC "Compensation Pin for Error Amplifier.", 2 FB (in) "Feedback Pin.", 3 ~{SHDN} (in) "Shutdown.", 4 GND (power) "Ground. Connect directly to local ground plane.", 5 SW (power) "Switch Pin. Connect inductor/diode here. Minimize trace area at this pin to keep EMI down.", 6 VIN (power) "Supply Pin.", 7 LBI (in) "Low-Battery Detector Input. 200mV reference. Voltage on LBI must stay between ground and 700mV.", 8 LBO (oc) "Low-Battery Detector Output. Open collector, can sink 10uA. A 1Mohm pull-up is recommended."

## LT1950EGN
designator U?
Boost, Flyback and Forward Controller Transformer and MOSFET Protection, 16-pin SOP (GN-16), -40 to 125 degC; Manufacturer: Linear Technology; PartNumber: LT1950EGN; Number of Outputs: 1; PackageReference: GN-16; PackageDescription: 16-Pin Plastic SSOP, Body 4.9 x 3.9 mm, Pitch 0.635 mm; Supplier 1: Digi-Key; Supplier Part Number 1: LT1950EGN-ND; RoHS: FALSE
footprint LT-GN-16_N (SOP, 16-Leads, Body 5x4mm, Pitch 0.635mm, IPC Medium Density)
footprint LT-GN-16_L (SOP, 16-Leads, Body 5x4mm, Pitch 0.635mm, IPC High Density)
footprint LT-GN-16_M (SOP, 16-Leads, Body 5x4mm, Pitch 0.635mm, IPC Low Density)
pins: 1 COMP (out) "The COMP pin is the output of the error amplifier. The error amplifier is a true op amp which allows the use of an RC network to be connected between the Comp and FB pins to compensate the feedback loop for optimum transient (See Datasheet)", 2 FB (in) "The FB pin is the inverting input to the error amplifier. The output voltage is set with a resistor divider. The error amplifier adjusts the peak switch current to maintain the FB pin voltage at the value of the internal (See Datasheet)", 3 ROSC "A resistor from the ROSC pin to ground programs the operating frequency of the LT1950. Operating frequency range is 100kHz to 500kHz. Nominal voltage on the ROSC pin is 1V.", 4 SYNC (in) "The SYNC pin is used to synchronize the internal oscillator to an external clock signal. The pin is directly logic compatible and can be driven with any signal with a duty cycle of 10% to 90%. If the SYNC function is not (See Datasheet)", 5 SLOPE (in) "The SLOPE pin is used to adjust the amount of slope compensation. Leaving the pin open circuit results in a default level of slope compensation. The amount of slope compensation can be adjusted above this default level by (See Datasheet)", 6 VREF (out) "The VREF pin is the output of an internal 2.5V reference. This pin is capable of sourcing up to 2.5mA for external use. It is recommended that the VREF pin is bypassed to ground with a 0.1uF ceramic capacitor.", 7 SHDN (in) "The SHDN pin is used to put the device into a low power shutdown state. In shutdown the VIN supply current drops to 5uA. The SHDN pin has an accurate threshold of 1.32V which can be used to program an undervoltage lockout (See Datasheet)", 8 GND (power) "The GND pin is the analog ground for the internal circuitry of the LT1950. Sensitive circuitry such as the feedback divider, frequency setting resistor, reference bypass capacitor should be tied directly to this pin. See the (See Datasheet)", 9 BLANK (in) "The BLANK pin is used to adjust the leading edge blanking period of the current sense amplifier during FET turn-on. Shorting the BLANK pin to ground provides a default blanking period of approximately 110ns. A resistor from (See Datasheet)", 10 ISENSE (in) "The ISENSE pin is the current sense input for the control loop. Connect this pin to the sense resistor in the source of the external power MOSFET.", 11 VIN2 (power) "The VIN2 pin is the supply pin for the MOSFET gate drive circuit. Power can be supplied to this pin by an external supply such as VIN, and must exceed 8V (the undervoltage lockout threshold for the gate driver supply). For (See Datasheet)", 12 GATE (out) "The GATE pin is the output of a high current gate drive circuit used to drive an external MOSFET. The output is actively clamped to a max voltage of 13V if VIN2 is supplied by a high voltage.", 13 PGND (power) "This is the ground connection for the high current gate driver stage. See the Applications Information section for recommendations on ground connections.", 14 BOOST "The BOOST pin is the NPN collector output of the internal boost converter which can be used to generate an 11V supply for the MOSFET gate driver circuit. The boost converter runs with a fixed off-time of 0.5us and a current (See Datasheet)", 15 VIN (power) "The VIN pin is the main supply pin for the LT1950. This pin must be closely bypassed to ground. If VIN2 is generated using the BOOST pin then the LT1950 will be fully functional, internal VREF will be active and the gate (See Datasheet)", 16 VSEC (in) "The VSEC pin is used to program the maximum duty cycle of the gate driver circuit. The maximum duty cycle will be equal to (105/VSEC)% for VSEC between 1.4V and 2.8V. This is a useful function to limit the flyback voltage in (See Datasheet)"

## LT1950EGN#PBF
designator U?
Boost, Flyback and Forward Controller Transformer and MOSFET Protection, 16-pin SOP (GN-16), -40 to 125 degC, Pb-Free; Manufacturer: Linear Technology; PartNumber: LT1950EGN#PBF; Number of Outputs: 1; PackageReference: GN-16; PackageDescription: 16-Pin Plastic SSOP, Body 4.9 x 3.9 mm, Pitch 0.635 mm; Supplier 1: Digi-Key; Supplier Part Number 1: LT1950EGN#PBF-ND; RoHS: TRUE
footprint LT-GN-16_N (SOP, 16-Leads, Body 5x4mm, Pitch 0.635mm, IPC Medium Density)
footprint LT-GN-16_L (SOP, 16-Leads, Body 5x4mm, Pitch 0.635mm, IPC High Density)
footprint LT-GN-16_M (SOP, 16-Leads, Body 5x4mm, Pitch 0.635mm, IPC Low Density)
pins: 1 COMP (out) "The COMP pin is the output of the error amplifier. The error amplifier is a true op amp which allows the use of an RC network to be connected between the Comp and FB pins to compensate the feedback loop for optimum transient (See Datasheet)", 2 FB (in) "The FB pin is the inverting input to the error amplifier. The output voltage is set with a resistor divider. The error amplifier adjusts the peak switch current to maintain the FB pin voltage at the value of the internal (See Datasheet)", 3 ROSC "A resistor from the ROSC pin to ground programs the operating frequency of the LT1950. Operating frequency range is 100kHz to 500kHz. Nominal voltage on the ROSC pin is 1V.", 4 SYNC (in) "The SYNC pin is used to synchronize the internal oscillator to an external clock signal. The pin is directly logic compatible and can be driven with any signal with a duty cycle of 10% to 90%. If the SYNC function is not (See Datasheet)", 5 SLOPE (in) "The SLOPE pin is used to adjust the amount of slope compensation. Leaving the pin open circuit results in a default level of slope compensation. The amount of slope compensation can be adjusted above this default level by (See Datasheet)", 6 VREF (out) "The VREF pin is the output of an internal 2.5V reference. This pin is capable of sourcing up to 2.5mA for external use. It is recommended that the VREF pin is bypassed to ground with a 0.1uF ceramic capacitor.", 7 SHDN (in) "The SHDN pin is used to put the device into a low power shutdown state. In shutdown the VIN supply current drops to 5uA. The SHDN pin has an accurate threshold of 1.32V which can be used to program an undervoltage lockout (See Datasheet)", 8 GND (power) "The GND pin is the analog ground for the internal circuitry of the LT1950. Sensitive circuitry such as the feedback divider, frequency setting resistor, reference bypass capacitor should be tied directly to this pin. See the (See Datasheet)", 9 BLANK (in) "The BLANK pin is used to adjust the leading edge blanking period of the current sense amplifier during FET turn-on. Shorting the BLANK pin to ground provides a default blanking period of approximately 110ns. A resistor from (See Datasheet)", 10 ISENSE (in) "The ISENSE pin is the current sense input for the control loop. Connect this pin to the sense resistor in the source of the external power MOSFET.", 11 VIN2 (power) "The VIN2 pin is the supply pin for the MOSFET gate drive circuit. Power can be supplied to this pin by an external supply such as VIN, and must exceed 8V (the undervoltage lockout threshold for the gate driver supply). For (See Datasheet)", 12 GATE (out) "The GATE pin is the output of a high current gate drive circuit used to drive an external MOSFET. The output is actively clamped to a max voltage of 13V if VIN2 is supplied by a high voltage.", 13 PGND (power) "This is the ground connection for the high current gate driver stage. See the Applications Information section for recommendations on ground connections.", 14 BOOST "The BOOST pin is the NPN collector output of the internal boost converter which can be used to generate an 11V supply for the MOSFET gate driver circuit. The boost converter runs with a fixed off-time of 0.5us and a current (See Datasheet)", 15 VIN (power) "The VIN pin is the main supply pin for the LT1950. This pin must be closely bypassed to ground. If VIN2 is generated using the BOOST pin then the LT1950 will be fully functional, internal VREF will be active and the gate (See Datasheet)", 16 VSEC (in) "The VSEC pin is used to program the maximum duty cycle of the gate driver circuit. The maximum duty cycle will be equal to (105/VSEC)% for VSEC between 1.4V and 2.8V. This is a useful function to limit the flyback voltage in (See Datasheet)"

## LT1950EGN#TR
designator U?
Boost, Flyback and Forward Controller Transformer and MOSFET Protection, 16-pin SOP (GN-16), -40 to 125 degC, Tape and Reel; Manufacturer: Linear Technology; PartNumber: LT1950EGN#TR; Number of Outputs: 1; PackageReference: GN-16; PackageDescription: 16-Pin Plastic SSOP, Body 4.9 x 3.9 mm, Pitch 0.635 mm; Supplier 1: Digi-Key; Supplier Part Number 1: LT1950EGN#TR-ND; RoHS: FALSE
footprint LT-GN-16_N (SOP, 16-Leads, Body 5x4mm, Pitch 0.635mm, IPC Medium Density)
footprint LT-GN-16_L (SOP, 16-Leads, Body 5x4mm, Pitch 0.635mm, IPC High Density)
footprint LT-GN-16_M (SOP, 16-Leads, Body 5x4mm, Pitch 0.635mm, IPC Low Density)
pins: 1 COMP (out) "The COMP pin is the output of the error amplifier. The error amplifier is a true op amp which allows the use of an RC network to be connected between the Comp and FB pins to compensate the feedback loop for optimum transient (See Datasheet)", 2 FB (in) "The FB pin is the inverting input to the error amplifier. The output voltage is set with a resistor divider. The error amplifier adjusts the peak switch current to maintain the FB pin voltage at the value of the internal (See Datasheet)", 3 ROSC "A resistor from the ROSC pin to ground programs the operating frequency of the LT1950. Operating frequency range is 100kHz to 500kHz. Nominal voltage on the ROSC pin is 1V.", 4 SYNC (in) "The SYNC pin is used to synchronize the internal oscillator to an external clock signal. The pin is directly logic compatible and can be driven with any signal with a duty cycle of 10% to 90%. If the SYNC function is not (See Datasheet)", 5 SLOPE (in) "The SLOPE pin is used to adjust the amount of slope compensation. Leaving the pin open circuit results in a default level of slope compensation. The amount of slope compensation can be adjusted above this default level by (See Datasheet)", 6 VREF (out) "The VREF pin is the output of an internal 2.5V reference. This pin is capable of sourcing up to 2.5mA for external use. It is recommended that the VREF pin is bypassed to ground with a 0.1uF ceramic capacitor.", 7 SHDN (in) "The SHDN pin is used to put the device into a low power shutdown state. In shutdown the VIN supply current drops to 5uA. The SHDN pin has an accurate threshold of 1.32V which can be used to program an undervoltage lockout (See Datasheet)", 8 GND (power) "The GND pin is the analog ground for the internal circuitry of the LT1950. Sensitive circuitry such as the feedback divider, frequency setting resistor, reference bypass capacitor should be tied directly to this pin. See the (See Datasheet)", 9 BLANK (in) "The BLANK pin is used to adjust the leading edge blanking period of the current sense amplifier during FET turn-on. Shorting the BLANK pin to ground provides a default blanking period of approximately 110ns. A resistor from (See Datasheet)", 10 ISENSE (in) "The ISENSE pin is the current sense input for the control loop. Connect this pin to the sense resistor in the source of the external power MOSFET.", 11 VIN2 (power) "The VIN2 pin is the supply pin for the MOSFET gate drive circuit. Power can be supplied to this pin by an external supply such as VIN, and must exceed 8V (the undervoltage lockout threshold for the gate driver supply). For (See Datasheet)", 12 GATE (out) "The GATE pin is the output of a high current gate drive circuit used to drive an external MOSFET. The output is actively clamped to a max voltage of 13V if VIN2 is supplied by a high voltage.", 13 PGND (power) "This is the ground connection for the high current gate driver stage. See the Applications Information section for recommendations on ground connections.", 14 BOOST "The BOOST pin is the NPN collector output of the internal boost converter which can be used to generate an 11V supply for the MOSFET gate driver circuit. The boost converter runs with a fixed off-time of 0.5us and a current (See Datasheet)", 15 VIN (power) "The VIN pin is the main supply pin for the LT1950. This pin must be closely bypassed to ground. If VIN2 is generated using the BOOST pin then the LT1950 will be fully functional, internal VREF will be active and the gate (See Datasheet)", 16 VSEC (in) "The VSEC pin is used to program the maximum duty cycle of the gate driver circuit. The maximum duty cycle will be equal to (105/VSEC)% for VSEC between 1.4V and 2.8V. This is a useful function to limit the flyback voltage in (See Datasheet)"

## LT1950EGN#TRPBF
designator U?
Boost, Flyback and Forward Controller Transformer and MOSFET Protection, 16-pin SOP (GN-16), -40 to 125 degC, Pb-Free, Tape and Reel; Manufacturer: Linear Technology; PartNumber: LT1950EGN#TRPBF; Number of Outputs: 1; PackageReference: GN-16; PackageDescription: 16-Pin Plastic SSOP, Body 4.9 x 3.9 mm, Pitch 0.635 mm; Supplier 1: Digi-Key; Supplier Part Number 1: LT1950EGN#TRPBF-ND; RoHS: TRUE
footprint LT-GN-16_N (SOP, 16-Leads, Body 5x4mm, Pitch 0.635mm, IPC Medium Density)
footprint LT-GN-16_L (SOP, 16-Leads, Body 5x4mm, Pitch 0.635mm, IPC High Density)
footprint LT-GN-16_M (SOP, 16-Leads, Body 5x4mm, Pitch 0.635mm, IPC Low Density)
pins: 1 COMP (out) "The COMP pin is the output of the error amplifier. The error amplifier is a true op amp which allows the use of an RC network to be connected between the Comp and FB pins to compensate the feedback loop for optimum transient (See Datasheet)", 2 FB (in) "The FB pin is the inverting input to the error amplifier. The output voltage is set with a resistor divider. The error amplifier adjusts the peak switch current to maintain the FB pin voltage at the value of the internal (See Datasheet)", 3 ROSC "A resistor from the ROSC pin to ground programs the operating frequency of the LT1950. Operating frequency range is 100kHz to 500kHz. Nominal voltage on the ROSC pin is 1V.", 4 SYNC (in) "The SYNC pin is used to synchronize the internal oscillator to an external clock signal. The pin is directly logic compatible and can be driven with any signal with a duty cycle of 10% to 90%. If the SYNC function is not (See Datasheet)", 5 SLOPE (in) "The SLOPE pin is used to adjust the amount of slope compensation. Leaving the pin open circuit results in a default level of slope compensation. The amount of slope compensation can be adjusted above this default level by (See Datasheet)", 6 VREF (out) "The VREF pin is the output of an internal 2.5V reference. This pin is capable of sourcing up to 2.5mA for external use. It is recommended that the VREF pin is bypassed to ground with a 0.1uF ceramic capacitor.", 7 SHDN (in) "The SHDN pin is used to put the device into a low power shutdown state. In shutdown the VIN supply current drops to 5uA. The SHDN pin has an accurate threshold of 1.32V which can be used to program an undervoltage lockout (See Datasheet)", 8 GND (power) "The GND pin is the analog ground for the internal circuitry of the LT1950. Sensitive circuitry such as the feedback divider, frequency setting resistor, reference bypass capacitor should be tied directly to this pin. See the (See Datasheet)", 9 BLANK (in) "The BLANK pin is used to adjust the leading edge blanking period of the current sense amplifier during FET turn-on. Shorting the BLANK pin to ground provides a default blanking period of approximately 110ns. A resistor from (See Datasheet)", 10 ISENSE (in) "The ISENSE pin is the current sense input for the control loop. Connect this pin to the sense resistor in the source of the external power MOSFET.", 11 VIN2 (power) "The VIN2 pin is the supply pin for the MOSFET gate drive circuit. Power can be supplied to this pin by an external supply such as VIN, and must exceed 8V (the undervoltage lockout threshold for the gate driver supply). For (See Datasheet)", 12 GATE (out) "The GATE pin is the output of a high current gate drive circuit used to drive an external MOSFET. The output is actively clamped to a max voltage of 13V if VIN2 is supplied by a high voltage.", 13 PGND (power) "This is the ground connection for the high current gate driver stage. See the Applications Information section for recommendations on ground connections.", 14 BOOST "The BOOST pin is the NPN collector output of the internal boost converter which can be used to generate an 11V supply for the MOSFET gate driver circuit. The boost converter runs with a fixed off-time of 0.5us and a current (See Datasheet)", 15 VIN (power) "The VIN pin is the main supply pin for the LT1950. This pin must be closely bypassed to ground. If VIN2 is generated using the BOOST pin then the LT1950 will be fully functional, internal VREF will be active and the gate (See Datasheet)", 16 VSEC (in) "The VSEC pin is used to program the maximum duty cycle of the gate driver circuit. The maximum duty cycle will be equal to (105/VSEC)% for VSEC between 1.4V and 2.8V. This is a useful function to limit the flyback voltage in (See Datasheet)"

## LT1950IGN
designator U?
Boost, Flyback and Forward Controller Transformer and MOSFET Protection, 16-pin SOP (GN-16), -40 to 125 degC; Manufacturer: Linear Technology; PartNumber: LT1950IGN; Number of Outputs: 1; PackageReference: GN-16; PackageDescription: 16-Pin Plastic SSOP, Body 4.9 x 3.9 mm, Pitch 0.635 mm; Supplier 1: Digi-Key; Supplier Part Number 1: LT1950IGN-ND; RoHS: FALSE
footprint LT-GN-16_N (SOP, 16-Leads, Body 5x4mm, Pitch 0.635mm, IPC Medium Density)
footprint LT-GN-16_L (SOP, 16-Leads, Body 5x4mm, Pitch 0.635mm, IPC High Density)
footprint LT-GN-16_M (SOP, 16-Leads, Body 5x4mm, Pitch 0.635mm, IPC Low Density)
pins: 1 COMP (out) "The COMP pin is the output of the error amplifier. The error amplifier is a true op amp which allows the use of an RC network to be connected between the Comp and FB pins to compensate the feedback loop for optimum transient (See Datasheet)", 2 FB (in) "The FB pin is the inverting input to the error amplifier. The output voltage is set with a resistor divider. The error amplifier adjusts the peak switch current to maintain the FB pin voltage at the value of the internal (See Datasheet)", 3 ROSC "A resistor from the ROSC pin to ground programs the operating frequency of the LT1950. Operating frequency range is 100kHz to 500kHz. Nominal voltage on the ROSC pin is 1V.", 4 SYNC (in) "The SYNC pin is used to synchronize the internal oscillator to an external clock signal. The pin is directly logic compatible and can be driven with any signal with a duty cycle of 10% to 90%. If the SYNC function is not (See Datasheet)", 5 SLOPE (in) "The SLOPE pin is used to adjust the amount of slope compensation. Leaving the pin open circuit results in a default level of slope compensation. The amount of slope compensation can be adjusted above this default level by (See Datasheet)", 6 VREF (out) "The VREF pin is the output of an internal 2.5V reference. This pin is capable of sourcing up to 2.5mA for external use. It is recommended that the VREF pin is bypassed to ground with a 0.1uF ceramic capacitor.", 7 SHDN (in) "The SHDN pin is used to put the device into a low power shutdown state. In shutdown the VIN supply current drops to 5uA. The SHDN pin has an accurate threshold of 1.32V which can be used to program an undervoltage lockout (See Datasheet)", 8 GND (power) "The GND pin is the analog ground for the internal circuitry of the LT1950. Sensitive circuitry such as the feedback divider, frequency setting resistor, reference bypass capacitor should be tied directly to this pin. See the (See Datasheet)", 9 BLANK (in) "The BLANK pin is used to adjust the leading edge blanking period of the current sense amplifier during FET turn-on. Shorting the BLANK pin to ground provides a default blanking period of approximately 110ns. A resistor from (See Datasheet)", 10 ISENSE (in) "The ISENSE pin is the current sense input for the control loop. Connect this pin to the sense resistor in the source of the external power MOSFET.", 11 VIN2 (power) "The VIN2 pin is the supply pin for the MOSFET gate drive circuit. Power can be supplied to this pin by an external supply such as VIN, and must exceed 8V (the undervoltage lockout threshold for the gate driver supply). For (See Datasheet)", 12 GATE (out) "The GATE pin is the output of a high current gate drive circuit used to drive an external MOSFET. The output is actively clamped to a max voltage of 13V if VIN2 is supplied by a high voltage.", 13 PGND (power) "This is the ground connection for the high current gate driver stage. See the Applications Information section for recommendations on ground connections.", 14 BOOST "The BOOST pin is the NPN collector output of the internal boost converter which can be used to generate an 11V supply for the MOSFET gate driver circuit. The boost converter runs with a fixed off-time of 0.5us and a current (See Datasheet)", 15 VIN (power) "The VIN pin is the main supply pin for the LT1950. This pin must be closely bypassed to ground. If VIN2 is generated using the BOOST pin then the LT1950 will be fully functional, internal VREF will be active and the gate (See Datasheet)", 16 VSEC (in) "The VSEC pin is used to program the maximum duty cycle of the gate driver circuit. The maximum duty cycle will be equal to (105/VSEC)% for VSEC between 1.4V and 2.8V. This is a useful function to limit the flyback voltage in (See Datasheet)"